# EAGLE library part ADS1234* (library ipas)
ADS1234 Texas Instruments 24-Bit Analog-to-Digital Converter For Bridge Sensors Package: TSSOP-28 (TI-postfix "PW") Dipl.-Ing. FH Rainer Bayer Hochschule Heilbronn – rainer.bayer@hs-heilbronn.de Ingenieurbüro ing-rb – eagle@ing-rb.de
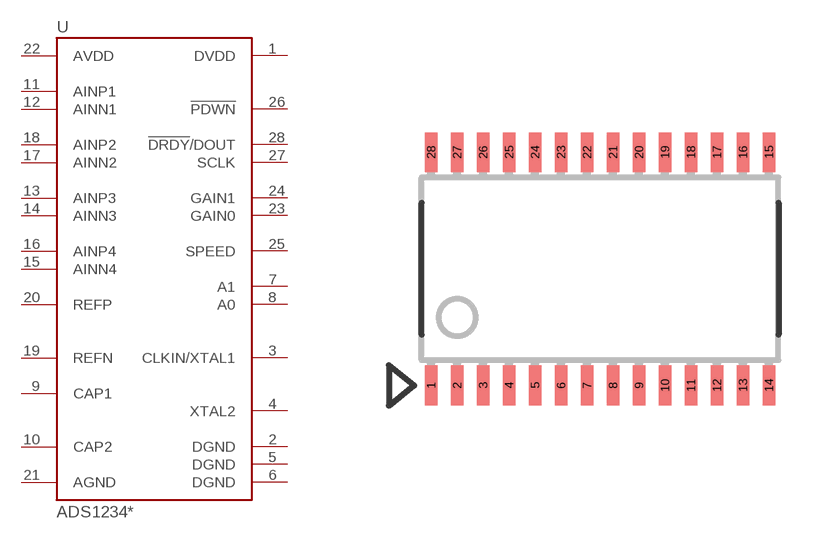
[diagram p44: symbol with the pads of TSSOP28; footprint TSSOP28]

Designator prefix U

## ADS1234PW  [TSSOP28]
1  DVDD  pwr
2  DGND  pwr
3  CLKIN/XTAL1  pas
4  XTAL2  pas
5  DGND  pwr
6  DGND  pwr
7  A1  in
8  A0  in
9  CAP1  pas
10  CAP2  pas
11  AINP1  pas
12  AINN1  pas
13  AINP3  pas
14  AINN3  pas
15  AINN4  pas
16  AINP4  pas
17  AINN2  pas
18  AINP2  pas
19  REFN  in
20  REFP  in
21  AGND  pwr
22  AVDD  pwr
23  GAIN0  in
24  GAIN1  in
25  SPEED  in
26  !PDWN  in
27  SCLK  in
28  !DRDY!/DOUT  out

## Footprint TSSOP28 (pad centres in mm)
Thin Shrink Small Outline Plastic 28
smd 0.305 x 0.991: 1 -3.575,-2.918; 2 -2.925,-2.918; 3 -2.275,-2.918; 4 -1.625,-2.918; 5 -0.975,-2.918; 6 -0.325,-2.918; 7 0.325,-2.918; 8 0.975,-2.918; 9 1.625,-2.918; 10 2.275,-2.918; 11 2.925,-2.918; 12 3.575,-2.918; 13 4.225,-2.918; 14 4.875,-2.918; 15 4.875,2.918; 16 4.225,2.918; 17 3.575,2.918; 18 2.925,2.918; 19 2.275,2.918; 20 1.625,2.918; 21 0.975,2.918; 22 0.325,2.918; 23 -0.325,2.918; 24 -0.975,2.918; 25 -1.625,2.918; 26 -2.275,2.918; 27 -2.925,2.918; 28 -3.575,2.918